# Altium schematic symbol library C0402C104K4RACTU.SchLib: 1 symbol
Pins are listed as number, name and electrical type; pins without a type are passive.

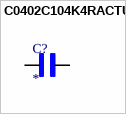
[diagram p0: symbol C0402C104K4RACTU]

## C0402C104K4RACTU
designator C?
Capacitor, Ceramic, Cap, .100uF, Tol 10%, SMT, 16V, X7R | KEMET C0402C104K4RACTU; SnapEDA_Link: https://www.snapeda.com/parts/C0402C104K4RACTU/KEMET/view-part/?ref=snap; Package: 402-2 KEMET; Value: *; MF: KEMET; MP: C0402C104K4RACTU; Check_prices: https://www.snapeda.com/parts/C0402C104K4RACTU/KEMET/view-part/?ref=eda
footprint CAPC1005X55N
pins: 1, 2